# EAGLE library part PNPINTERFACE (library PNP)
One use, interface to DIYPNP1.5 jumper locations
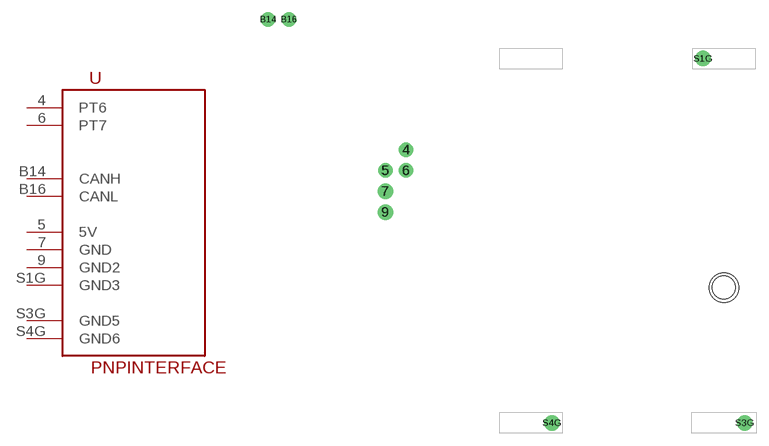
[diagram p11: symbol with the pads of PNPBOARD; footprint PNPBOARD]

Designator prefix -

## PNPINTERFACE  [PNPBOARD]
4  PT6  in
5  5V  pwr
6  PT7  in
7  GND  pwr
9  GND2  pas
B14  CANH
B16  CANL
S1G  GND3  pas
S3G  GND5  pas
S4G  GND6  pas

## Footprint PNPBOARD (pad centres in mm)
drill 1.016 pad 1.778: 4 -15.24,16.828; 5 -17.78,14.287; 6 -15.24,14.287; B14 -32.068,32.703; B16 -29.527,32.703
drill 1.016 pad 1.88: 7 -17.78,11.748; 9 -17.78,9.207; S1G 20.955,27.94; S3G 26.035,-16.51; S4G 2.54,-16.51
hole 2.8 at 23.495,0